# Altium footprint library rcl.PCBLIB: 487 footprints (part 17 of 31)
Each footprint in its own frame and in the unit in brackets; x right, y up, seen from the top. Pads: shape width x height; smd on the part's side, far side on the other; paste and mask are expansions set on the pad; w line width, h text height; cw(c..) or ccw(c..) is an arc to the next point about the centre after c.
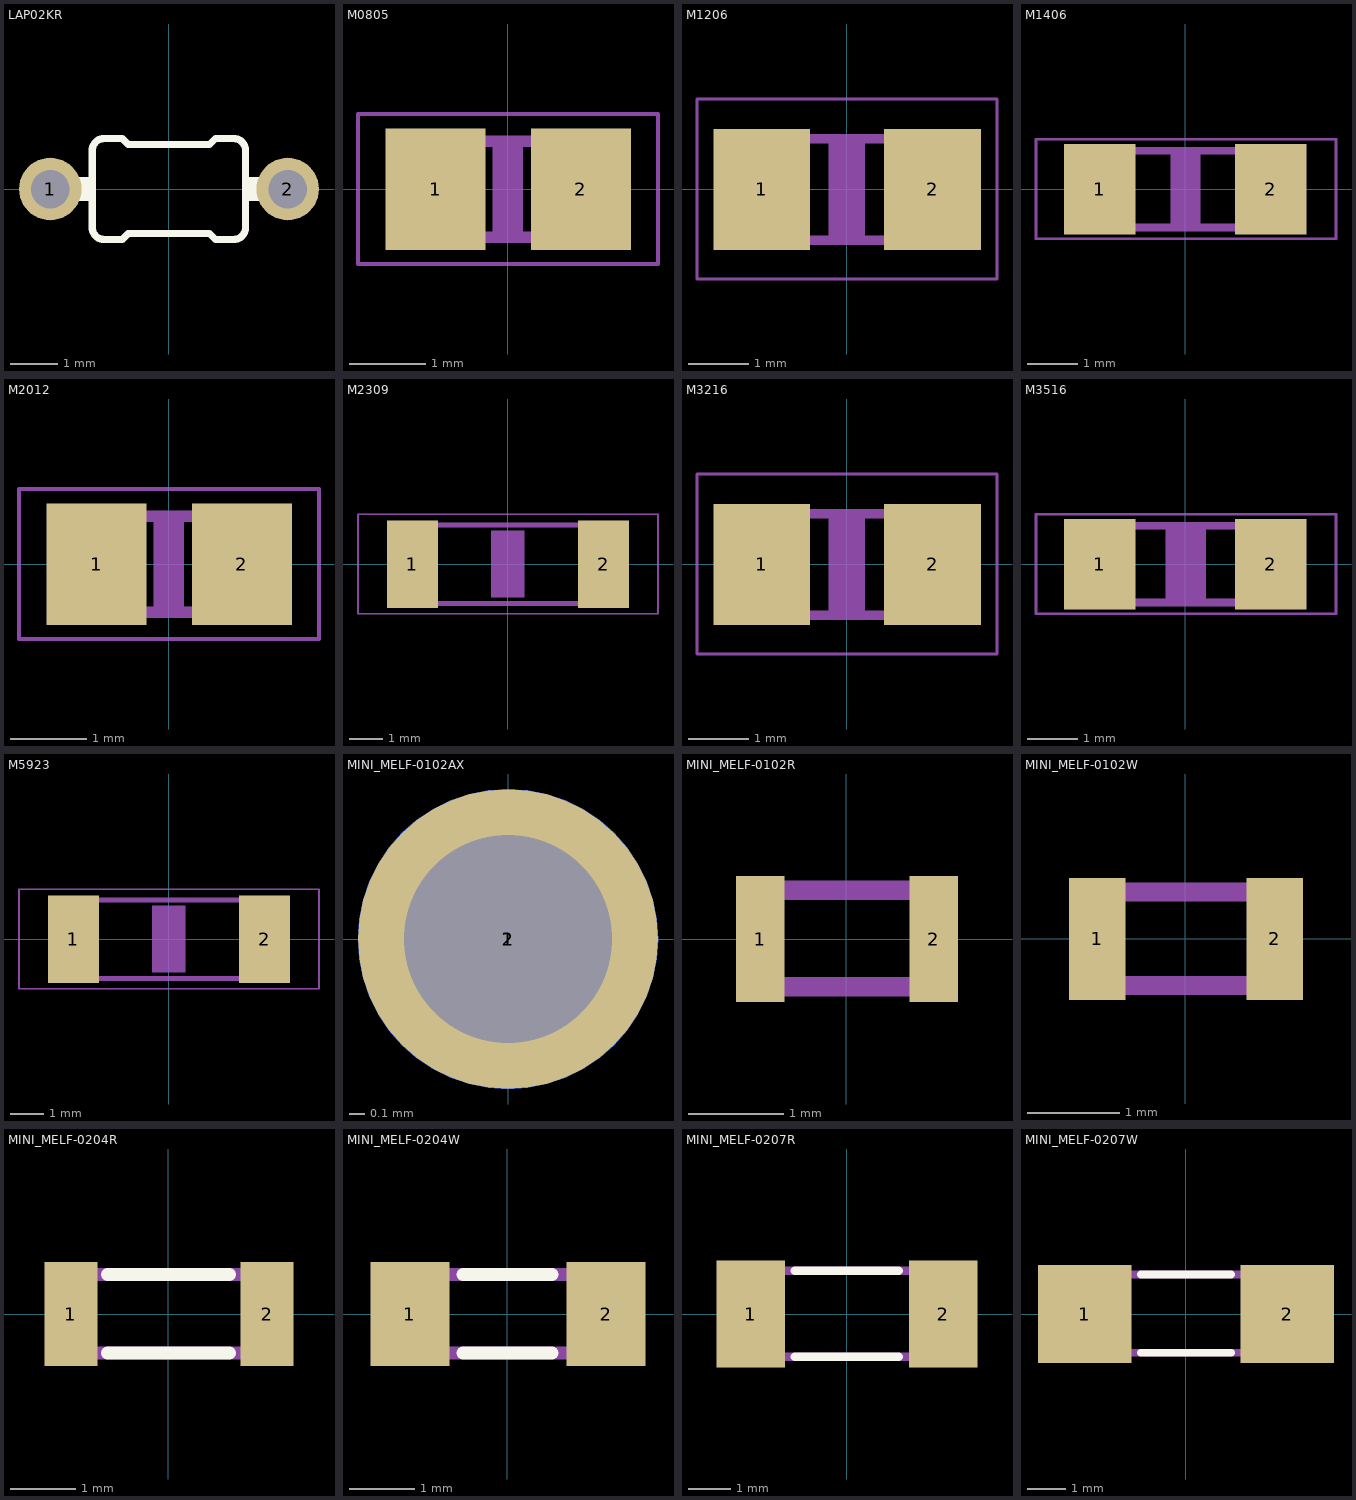
[diagram p16: the footprints below, top view; thin cyan lines are the x and y axes]

## LAP02KR [mil]
pads (2):
  round 52 hole 32: 1(-98.43,0) 2(99,0)
Top Overlay:
  rectangle: 64,-10 75,10
  rectangle: -74.8,-10 -63.58,10
  lines w6: -63.58,-31.97 ccw(c-53.58,-31.97) -53.58,-41.97 -38.58,-41.97 -33.58,-36.97 34,-36.97 39,-41.97 54,-41.97 ccw(c54,-31.97) 64,-31.97 64,32 ccw(c54,32) 54,42 39,42 34,37 -33.58,37 -38.58,42 -53.58,42 ccw(c-53.58,32) -63.58,32 -63.58,-31.97
Mechanical 16:
  lines w20: -98.43,0 -75,0 ; 75,0 99,0

## M0805 [mil]
pads (2):
  rect 52x63 smd: 1(-37.4,0) 2(38,0)
Mechanical 6:
  rectangle: -7.87,-23.62 8,24
Mechanical 16:
  rectangle: -41,-28 -27,28
  rectangle: 27,-28 41,28
  lines w6: -28,-25 28,-25 ; -28,25 28,25
Mechanical 27:
  lines w2: -77.68,-38.7 78,-38.7 78,39 -77.68,39 -77.68,-38.7

## M1206 [mil]
pads (2):
  rect 63x79 smd: 1(-55.12,0) 2(56,0)
Mechanical 6:
  rectangle: -11.81,-31.5 12,32
Mechanical 16:
  rectangle: -67,-36 -44,36
  rectangle: 44,-36 67,36
  lines w6: -45,-33 45,-33 ; -45,33 45,33
Mechanical 27:
  lines w2: -97.36,-58.39 98,-58.39 98,59 -97.36,59 -97.36,-58.39

## M1406 [mil]
pads (2):
  rect 56x71 smd: 1(-66.93,0) 2(67,0)
Mechanical 6:
  rectangle: -11.81,-27.56 12,28
Mechanical 16:
  rectangle: -73,-33 -51,33
  rectangle: 51,-33 73,33
  lines w6: -52,-30 52,-30 ; -52,30 52,30
Mechanical 27:
  lines w2: -117.05,-38.7 118,-38.7 118,39 -117.05,39 -117.05,-38.7

## M2012 [mil]
pads (2):
  rect 52x63 smd: 1(-37.4,0) 2(38,0)
Mechanical 6:
  rectangle: -7.87,-23.62 8,24
Mechanical 16:
  rectangle: -41,-28 -27,28
  rectangle: 27,-28 41,28
  lines w6: -28,-25 28,-25 ; -28,25 28,25
Mechanical 27:
  lines w2: -77.68,-38.7 78,-38.7 78,39 -77.68,39 -77.68,-38.7

## M2309 [mil]
pads (2):
  rect 60x103 smd: 1(-112.2,0) 2(113,0)
Mechanical 6:
  rectangle: -19.69,-39.37 20,40
Mechanical 16:
  rectangle: -120,-49 -94,49
  rectangle: 94,-49 120,49
  lines w6: -96,46 95,46 ; -95,-46 95,-46
Mechanical 27:
  lines w2: -176.1,-58.39 177,-58.39 177,59 -176.1,59 -176.1,-58.39

## M3216 [mil]
pads (2):
  rect 63x79 smd: 1(-55.12,0) 2(56,0)
Mechanical 6:
  rectangle: -11.81,-31.5 12,32
Mechanical 16:
  rectangle: -67,-36 -44,36
  rectangle: 44,-36 67,36
  lines w6: -45,-33 45,-33 ; -45,33 45,33
Mechanical 27:
  lines w2: -97.36,-58.39 98,-58.39 98,59 -97.36,59 -97.36,-58.39

## M3516 [mil]
pads (2):
  rect 56x71 smd: 1(-66.93,0) 2(67,0)
Mechanical 6:
  rectangle: -15.75,-27.56 16,28
Mechanical 16:
  rectangle: -73,-33 -51,33
  rectangle: 51,-33 73,33
  lines w6: -52,-30 52,-30 ; -52,30 52,30
Mechanical 27:
  lines w2: -117.05,-38.7 118,-38.7 118,39 -117.05,39 -117.05,-38.7

## M5923 [mil]
pads (2):
  rect 60x103 smd: 1(-112.2,0) 2(113,0)
Mechanical 6:
  rectangle: -19.69,-39.37 20,40
Mechanical 16:
  rectangle: -120,-49 -94,49
  rectangle: 94,-49 120,49
  lines w6: -96,46 95,46 ; -95,-46 95,-46
Mechanical 27:
  lines w2: -176.1,-58.39 177,-58.39 177,59 -176.1,59 -176.1,-58.39

## MINI_MELF-0102AX [mil]
pads (3):
  rrect100% 75x75 smd: 1(0,0)
  round 52 hole 52: 1(0,0)
  rrect100% 75x75 smd far side: 2(0,0)
Mechanical 16:
  circle w0: c0,0 r24
Mechanical 30:
  circle w0: c0,0 r24

## MINI_MELF-0102R [mil]
pads (2):
  rect 20x52 smd: 1(-35.43,0) 2(36,0)
Mechanical 16:
  lines w8: -39.37,-19.68 40,-19.68 40,20 -39.37,20 -39.37,-19.68

## MINI_MELF-0102W [mil]
pads (2):
  rect 24x52 smd: 1(-37.4,0) 2(38,0)
Mechanical 16:
  lines w8: -39.37,-19.68 40,-19.68 40,20 -39.37,20 -39.37,-19.68

## MINI_MELF-0204R [mil]
pads (2):
  rect 32x63 smd: 1(-59.06,0) 2(60,0)
Top Overlay:
  lines w8: -36.93,-23.62 37,-23.62 ; -36.93,24 37,24
Mechanical 16:
  lines w8: -66.93,-23.62 67,-23.62 67,24 -66.93,24 -66.93,-23.62

## MINI_MELF-0204W [mil]
pads (2):
  rect 48x63 smd: 1(-59.06,0) 2(60,0)
Top Overlay:
  lines w8: -26.93,-23.62 27,-23.62 ; -26.93,24 27,24
Mechanical 16:
  lines w8: -66.93,-23.62 67,-23.62 67,24 -66.93,24 -66.93,-23.62

## MINI_MELF-0207R [mil]
pads (2):
  rect 63x99 smd: 1(-88.58,0) 2(89,0)
Top Overlay:
  lines w8: -47.74,-39.37 48,-39.37 ; -47.74,40 48,40
Mechanical 16:
  lines w8: -110.24,-39.37 111,-39.37 111,40 -110.24,40 -110.24,-39.37

## MINI_MELF-0207W [mil]
pads (2):
  rect 95x99 smd: 1(-102.36,0) 2(103,0)
Top Overlay:
  lines w8: -45.24,-39.37 46,-39.37 ; -45.24,40 46,40
Mechanical 16:
  lines w8: -110.24,-39.37 111,-39.37 111,40 -110.24,40 -110.24,-39.37